# Altium footprint library LEDC1005X35N.PcbLib: 2 footprints
Each footprint in its own frame and in the unit in brackets; x right, y up, seen from the top. Pads: shape width x height; smd on the part's side, far side on the other; paste and mask are expansions set on the pad; w line width, h text height; cw(c..) or ccw(c..) is an arc to the next point about the centre after c.
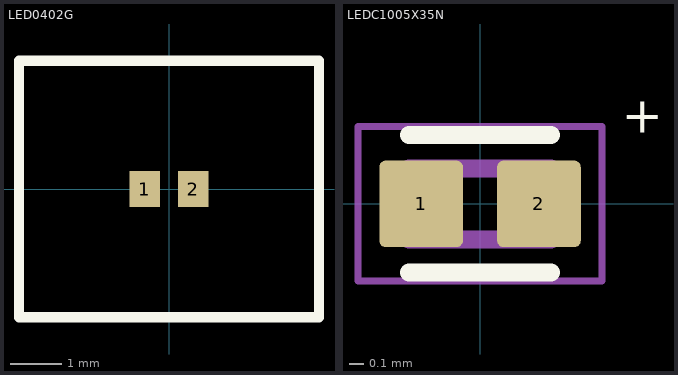
[diagram p0: the footprints below, top view; thin cyan lines are the x and y axes]

## LED0402G [mm]
pads (2):
  rect 0.6x0.7 smd: 1(-0.475,0) 2(0.475,0)
Top Overlay:
  lines w0.2: -2.925,-2.5 2.925,-2.5 2.925,2.5 -2.925,2.5 -2.925,0 -2.925,-2.5

## LEDC1005X35N [mm]
pads (2):
  rrect15% 0.59x0.61 smd: 1(-0.415,0) 2(0.415,0)
Top Overlay:
  lines w0.127: -0.5,-0.485 0.5,-0.485 ; -0.5,0.485 0.5,0.485
  text "+" at 1,0.5 h0.25
Assembly Top:
  lines w0.127: -0.5,-0.25 0.5,-0.25 0.5,0.25 -0.5,0.25 -0.5,-0.25
Courtyard Top:
  lines w0.05: -0.86,-0.545 0.86,-0.545 0.86,0.545 -0.86,0.545 -0.86,-0.545
3D body "step_temp.STEP": height 0.8, standoff 0, extent -1,-1 1,1